# Altium schematic symbol library R-785.0-1.0.SchLib: 1 symbol
Pins are listed as number, name and electrical type; pins without a type are passive.

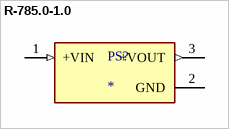
[diagram p0: symbol R-785.0-1.0]

## R-785.0-1.0
designator PS?
1.0 Amp SIP3 Single Output; MP: R-785.0-1.0; MF: {'manufacturer': u'Recom Power'}; Value: *; Price: None; Package: None; Availability: Unavailable
footprint CONV_R-785.0-1.0
pins: 1 +VIN (in), 2 GND (power), 3 +VOUT (out)